# EAGLE library part NC7SP74K8X (library Fairchild_By_element14_Batch_1)
ULP D-Type Flip-Flop
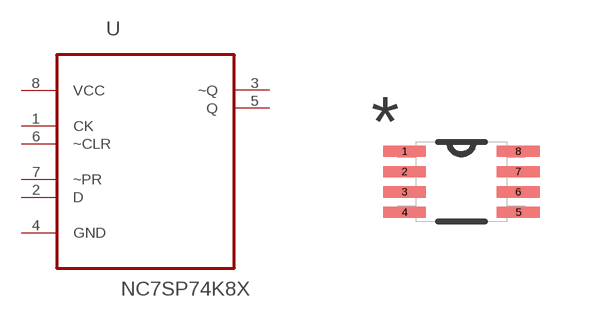
[diagram p347: symbol with the pads of SOP50P310X90-8N; footprint SOP50P310X90-8N]

Designator prefix U

## NC7SP74K8X (MPN: NC7SP74K8X; OC_FARNELL: 1467318; OC_NEWARK: 82H9304; PACKAGE: SO-8; SUPPLIER: FAIRCHILD SEMICONDUCTOR)  [SOP50P310X90-8N]
1  CK  in
2  D  in
3  ~Q  out
4  GND  pas
5  Q  out
6  ~CLR  in
7  ~PR  in
8  VCC  pwr

## Footprint SOP50P310X90-8N (pad centres in mm)
smd 1.067 x 0.279: 1 -1.422,0.762; 2 -1.422,0.254; 3 -1.422,-0.254; 4 -1.422,-0.762; 5 1.422,-0.762; 6 1.422,-0.254; 7 1.422,0.254; 8 1.422,0.762